# Altium footprint library PS29_XYD.PcbLib: 36 footprints (part 1 of 3)
Each footprint in its own frame and in the unit in brackets; x right, y up, seen from the top. Pads: shape width x height; smd on the part's side, far side on the other; paste and mask are expansions set on the pad; w line width, h text height; cw(c..) or ccw(c..) is an arc to the next point about the centre after c.
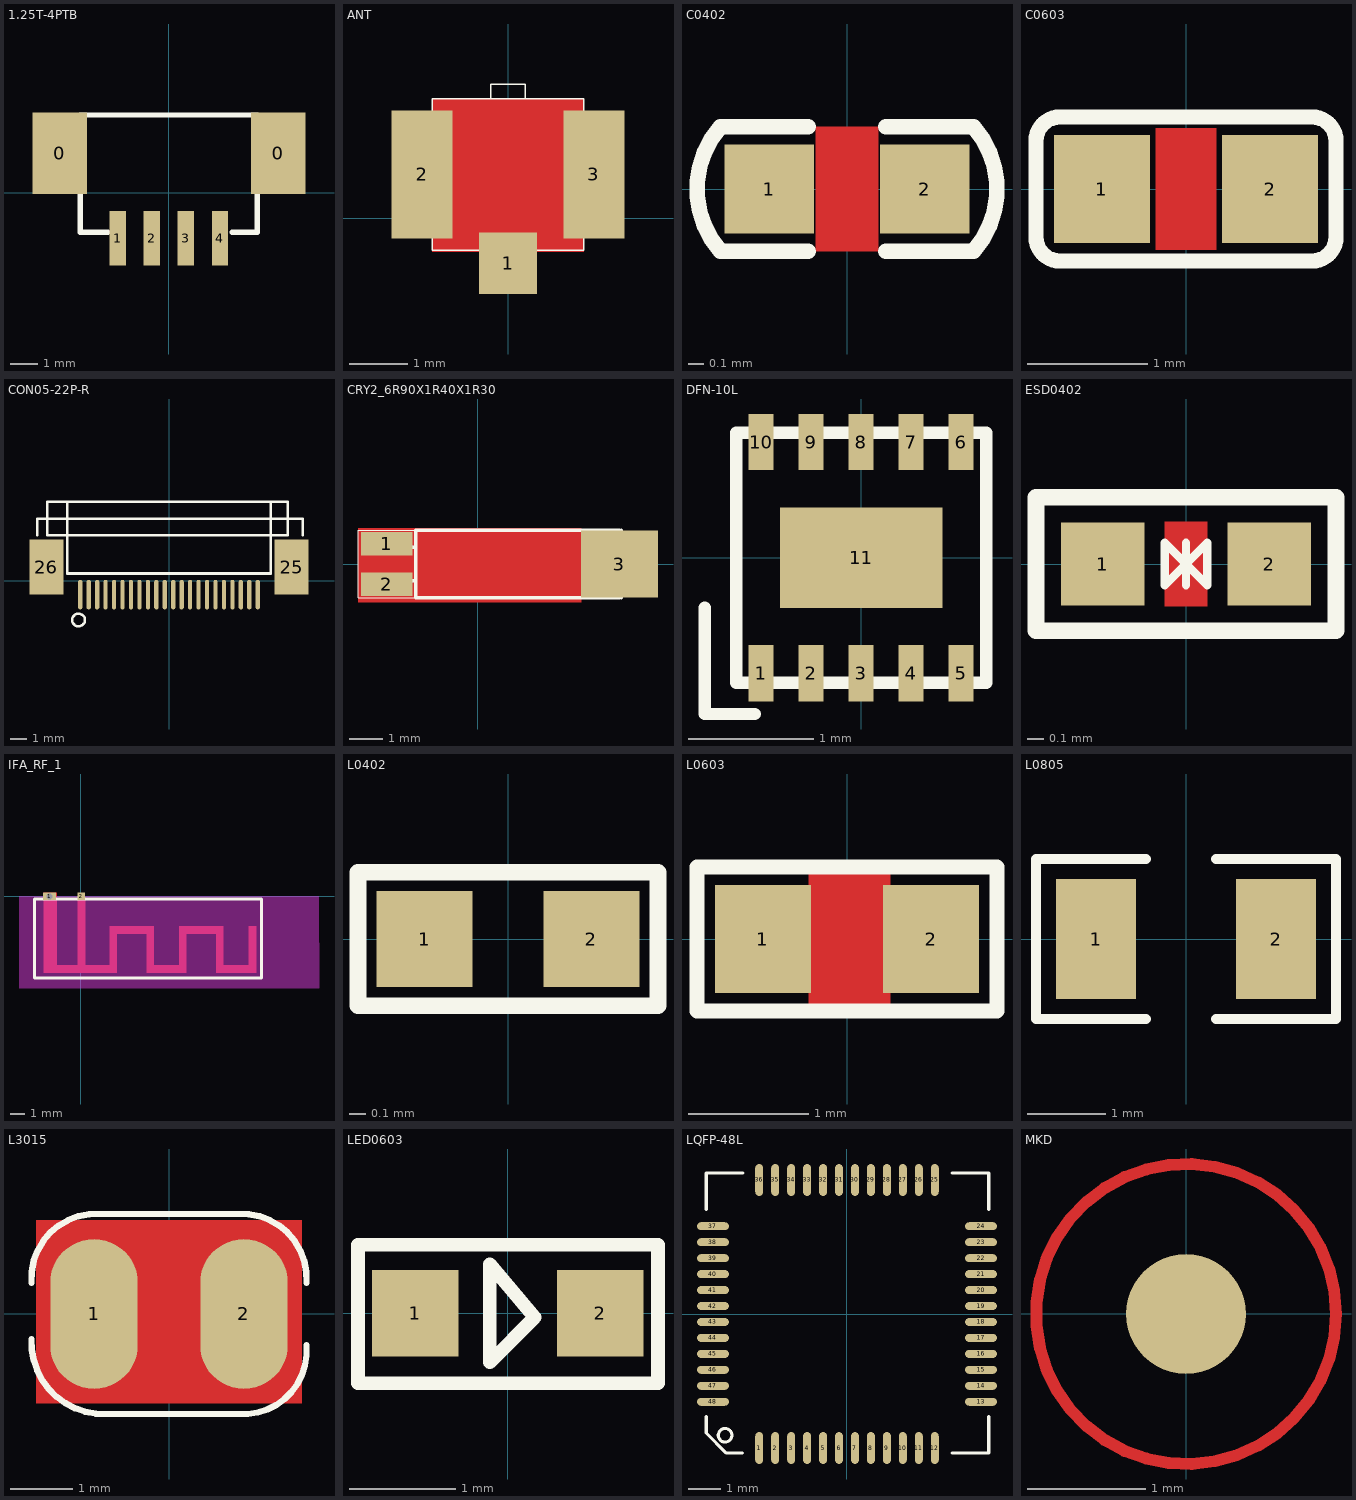
[diagram p0: the footprints below, top view; thin cyan lines are the x and y axes]

## 1.25T-4PTB [mm]
pads (6):
  rect 2x3 smd: 0(-4,1.45) 0(4.01,1.45)
  rect 0.6x2 smd: 1(-1.875,-1.68) 2(-0.625,-1.68) 3(0.625,-1.68) 4(1.875,-1.68)
Top Overlay:
  lines w0.2: -2.25,-1.45 -3.25,-1.45 -3.25,2.85 3.25,2.85 3.25,-1.45 2.325,-1.45

## ANT [mm]
pads (3):
  rect 1x1.05 smd: 1(0,-0.775)
  rect 1.05x2.2 smd: 2(-1.475,0.75) 3(1.475,0.75)
Top Layer:
  pour cut-out: -1.3,2.05 -1.3,-0.575 1.3,-0.575 1.3,2.05
Top Overlay:
  lines w0.025: -0.3,2.05 -0.3,2.3 0.3,2.3 0.3,2.05 ; -1.3,-0.55 -1.3,2.05 1.3,2.05 1.3,-0.55 -1.3,-0.55

## C0402 [mm]
pads (2):
  rect 0.575x0.575 smd: 1(-0.5,0) 2(0.5,0)
Top Layer:
  pour cut-out: -0.2,0.4 0.2,0.4 0.2,-0.4 -0.2,-0.4
Top Overlay:
  lines w0.1: -0.25,-0.4 -0.813,-0.4 cw(c-0.359,0) -0.813,0.4 -0.25,0.4 ; 0.25,-0.4 0.813,-0.4 ccw(c0.359,0) 0.813,0.4 0.25,0.4

## C0603 [mil]
pads (2):
  rect 31.5x35.4 smd: 1(-27.56,0) 2(27.56,0)
Top Layer:
  pour cut-out: -10,20 -10,-20 10,-20 10,20
Top Overlay:
  lines w5: -49.21,-15.75 ccw(c-41.34,-15.75) -41.34,-23.62 41.34,-23.62 ccw(c41.34,-15.75) 49.21,-15.75 49.21,15.75 ccw(c41.34,15.75) 41.34,23.62 -41.34,23.62 ccw(c-41.34,15.75) -49.21,15.75 -49.21,-15.75

## CON05-22P-R [mm]
pads (24):
  oval 0.25x1.75 smd: 1(-5.25,-0.813) 2(-4.75,-0.813) 3(-4.25,-0.813) 4(-3.75,-0.813) 5(-3.25,-0.813) 6(-2.75,-0.813) 7(-2.25,-0.813) 8(-1.75,-0.813) 9(-1.25,-0.813) 10(-0.75,-0.813) 11(-0.25,-0.813) 12(0.25,-0.813) 13(0.75,-0.813) 14(1.25,-0.813) 15(1.75,-0.813) 16(2.25,-0.813) 17(2.75,-0.813) 18(3.25,-0.813) 19(3.75,-0.813) 20(4.25,-0.813) 21(4.75,-0.813) 22(5.25,-0.813)
  rect 2x3.25 smd: 25(7.25,0.813) 26(-7.25,0.813)
Top Overlay:
  circle w0.15: c-5.35,-2.312 r0.375
  lines w0.15: -7.785,2.688 -7.785,3.688 7.917,3.688 7.917,2.688 ; -7.2,2.688 -7.2,4.687 7.028,4.687 7.028,2.688 -7.2,2.688 ; -6.03,0.437 -6.03,4.687 6.012,4.687 6.012,0.437 -6.03,0.437

## CRY2_6R90X1R40X1R30 [mm]
pads (3):
  rect 1.524x0.7 smd: 1(-2.7,0.6) 2(-2.7,-0.6)
  rect 2.286x2 smd: 3(4.2,0)
Top Layer:
  pour cut-out: -3.558,1.054 3.059,1.054 3.059,-1.132 -3.558,-1.132
Top Overlay:
  lines w0.025: -3.55,-1 -3.55,1 4.3,1 4.3,-1 -3.55,-1
  lines w0.1: -2.45,-0.5 -1.85,-0.5 ; -2.45,0.5 -1.85,0.5 ; 4.2,-1 -1.85,-1 -1.85,1 4.2,1 ; 4.25,-1 4.25,1

## DFN-10L [mm]
pads (11):
  rect 0.2x0.45 smd: 1(-0.8,-0.925) 2(-0.4,-0.925) 3(0,-0.925) 4(0.4,-0.925) 5(0.8,-0.925) 6(0.8,0.925) 7(0.4,0.925) 8(0,0.925) 9(-0.4,0.925) 10(-0.8,0.925)
  rect 1.3x0.8 smd: 11(0,0)
Top Overlay:
  lines w0.1: -1.25,-0.4 -1.25,-1.25 -0.85,-1.25 ; -1,-1 1,-1 1,1 -1,1 -1,-1

## ESD0402 [mm]
pads (2):
  rect 0.5x0.5 smd: 1(-0.5,0) 2(0.5,0)
Top Layer:
  pour cut-out: -0.127,-0.254 -0.127,0.254 0.127,0.254 0.127,-0.254
Top Overlay:
  lines w0.05: 0,-0.127 0,0.127 ; 0,0 -0.127,0.127 -0.127,-0.127 0,0 ; 0,0 0.127,0.127 0.127,-0.127 0,0
  lines w0.1: -0.9,-0.4 -0.9,0.4 0.9,0.4 0.9,-0.4 -0.9,-0.4

## IFA_RF_1 [mm]
pads (2):
  rect 0.9x0.5 / inner rect 0.9x0.5 / far side oval 0.7x0.5 hole 0.4: 1(-2.1,0)
  rect 0.5x0.5 smd: 2(0.05,0)
Top Layer:
  region: -1.599,0.25 -1.599,-5.15 -2.498,-5.15 -2.498,0.25
  region: 0.301,-0.092 0.301,-4.9 -0.2,-4.9 -0.2,-0.092
  region: 2.4,-5.15 -2.1,-5.15 -2.1,-4.651 2.4,-4.651
  region: 4.95,-2.01 4.95,-2.51 1.95,-2.51 1.95,-2.01
  region: 4.95,-2.01 4.95,-5.15 4.449,-5.15 4.449,-2.01
  region: 2.45,-2.01 2.45,-5.15 1.95,-5.15 1.95,-2.01
  region: 7.15,-4.65 7.15,-5.15 4.449,-5.15 4.449,-4.65
  region: 9.65,-2.01 9.65,-2.51 6.949,-2.51 6.949,-2.01
  region: 11.85,-2.01 11.85,-5.15 11.35,-5.15 11.35,-2.01
  region: 9.65,-2.01 9.65,-5.15 9.15,-5.15 9.15,-2.01
  region: 7.15,-2.01 7.15,-5.15 6.65,-5.15 6.65,-2.01
  region: 11.85,-4.651 11.85,-5.15 9.15,-5.15 9.15,-4.651
Top Overlay:
  lines w0.2: -3.125,-5.525 12.225,-5.525 12.225,-0.175 -3.125,-0.175 -3.125,-5.525
Keep-Out Layer:
  pour cut-out: 16.104,-6.203 16.1,0 -4.166,0 -4.166,-6.203

## L0402 [mm]
pads (2):
  rect 0.575x0.575 smd: 1(-0.5,0) 2(0.5,0)
Top Overlay:
  lines w0.1: -0.9,-0.4 0.9,-0.4 0.9,0.4 -0.9,0.4 -0.9,-0.4

## L0603 [mil]
pads (2):
  rect 31.5x35.4 smd: 1(-27.56,0) 2(27.56,0)
Top Layer:
  pour cut-out: -12.6,22.44 14.17,22.44 14.17,-23.23 -12.6,-23.23
Top Overlay:
  lines w5: -49.21,-23.62 -49.21,23.62 49.21,23.62 49.21,-23.62 -49.21,-23.62

## L0805 [mil]
pads (2):
  rect 40x60 smd: 1(-45,0) 2(45,0)
Top Overlay:
  lines w5: -20,-40 -75,-40 -75,40 -20,40 ; 15,-40 75,-40 75,40 15,40

## L3015 [mm]
pads (2):
  oval 1.4x2.4 smd: 1(-1.2,0.001) 2(1.2,0.001)
Top Layer:
  pour cut-out: -2.125,1.5 2.125,1.5 2.125,-1.425 -2.125,-1.425
Top Overlay:
  lines w0.102: -2.201,-0.399 ccw(c-1.051,-0.449) -1.001,-1.599 1.099,-1.599 ccw(c1.189,-0.589) 2.199,-0.499 ; -2.201,0.501 cw(c-1.171,0.571) -1.101,1.601 1.099,1.601 cw(c1.17,0.571) 2.199,0.501

## LED0603 [mil]
pads (2):
  rect 32x32 smd: 1(-34.2,0.06) 2(34.2,-0.06)
Top Overlay:
  lines w5: -55.38,-25.89 -55.38,25.3 55.62,25.3 55.62,-25.89 -55.38,-25.89 ; -6.67,-18.21 -6.67,18.14 9.96,-1.57 -6.67,-18.21

## LQFP-48L [mm]
pads (48):
  oval 0.25x1 smd: 1(-2.75,-4.2) 2(-2.25,-4.2) 3(-1.75,-4.2) 4(-1.25,-4.2) 5(-0.75,-4.2) 6(-0.25,-4.2) 7(0.25,-4.2) 8(0.75,-4.2) 9(1.25,-4.2) 10(1.75,-4.2) 11(2.25,-4.2) 12(2.75,-4.2) 25(2.75,4.2) 26(2.25,4.2) 27(1.75,4.2) 28(1.25,4.2) 29(0.75,4.2) 30(0.25,4.2) 31(-0.25,4.2) 32(-0.75,4.2) 33(-1.25,4.2) 34(-1.75,4.2) 35(-2.25,4.2) 36(-2.75,4.2)
  oval 1x0.25 smd: 13(4.2,-2.75) 14(4.2,-2.25) 15(4.2,-1.75) 16(4.2,-1.25) 17(4.2,-0.75) 18(4.2,-0.25) 19(4.2,0.25) 20(4.2,0.75) 21(4.2,1.25) 22(4.2,1.75) 23(4.2,2.25) 24(4.2,2.75) 37(-4.2,2.75) 38(-4.2,2.25) 39(-4.2,1.75) 40(-4.2,1.25) 41(-4.2,0.75) 42(-4.2,0.25) 43(-4.2,-0.25) 44(-4.2,-0.75) 45(-4.2,-1.25) 46(-4.2,-1.75) 47(-4.2,-2.25) 48(-4.2,-2.75)
Top Overlay:
  circle w0.1: c-3.82,-3.8 r0.214
  lines w0.1: -4.41,-3.21 -4.41,-3.73 -3.78,-4.36 -3.27,-4.36 ; -4.41,3.28 -4.41,4.42 -3.26,4.42 ; 3.29,-4.36 4.44,-4.36 4.44,-3.22 ; 3.3,4.42 4.44,4.42 4.44,3.27

## MKD [mil]
pads (2):
  round 40 smd: ""(0,-0.06)
  round 80 on Top Solder: ""(0,-0.06)
Top Layer:
  circle w3.94: c0,-0.06 r50